# Altium footprint library transistor-power.PCBLIB: 90 footprints (part 2 of 6)
Each footprint in its own frame and in the unit in brackets; x right, y up, seen from the top. Pads: shape width x height; smd on the part's side, far side on the other; paste and mask are expansions set on the pad; w line width, h text height; cw(c..) or ccw(c..) is an arc to the next point about the centre after c.
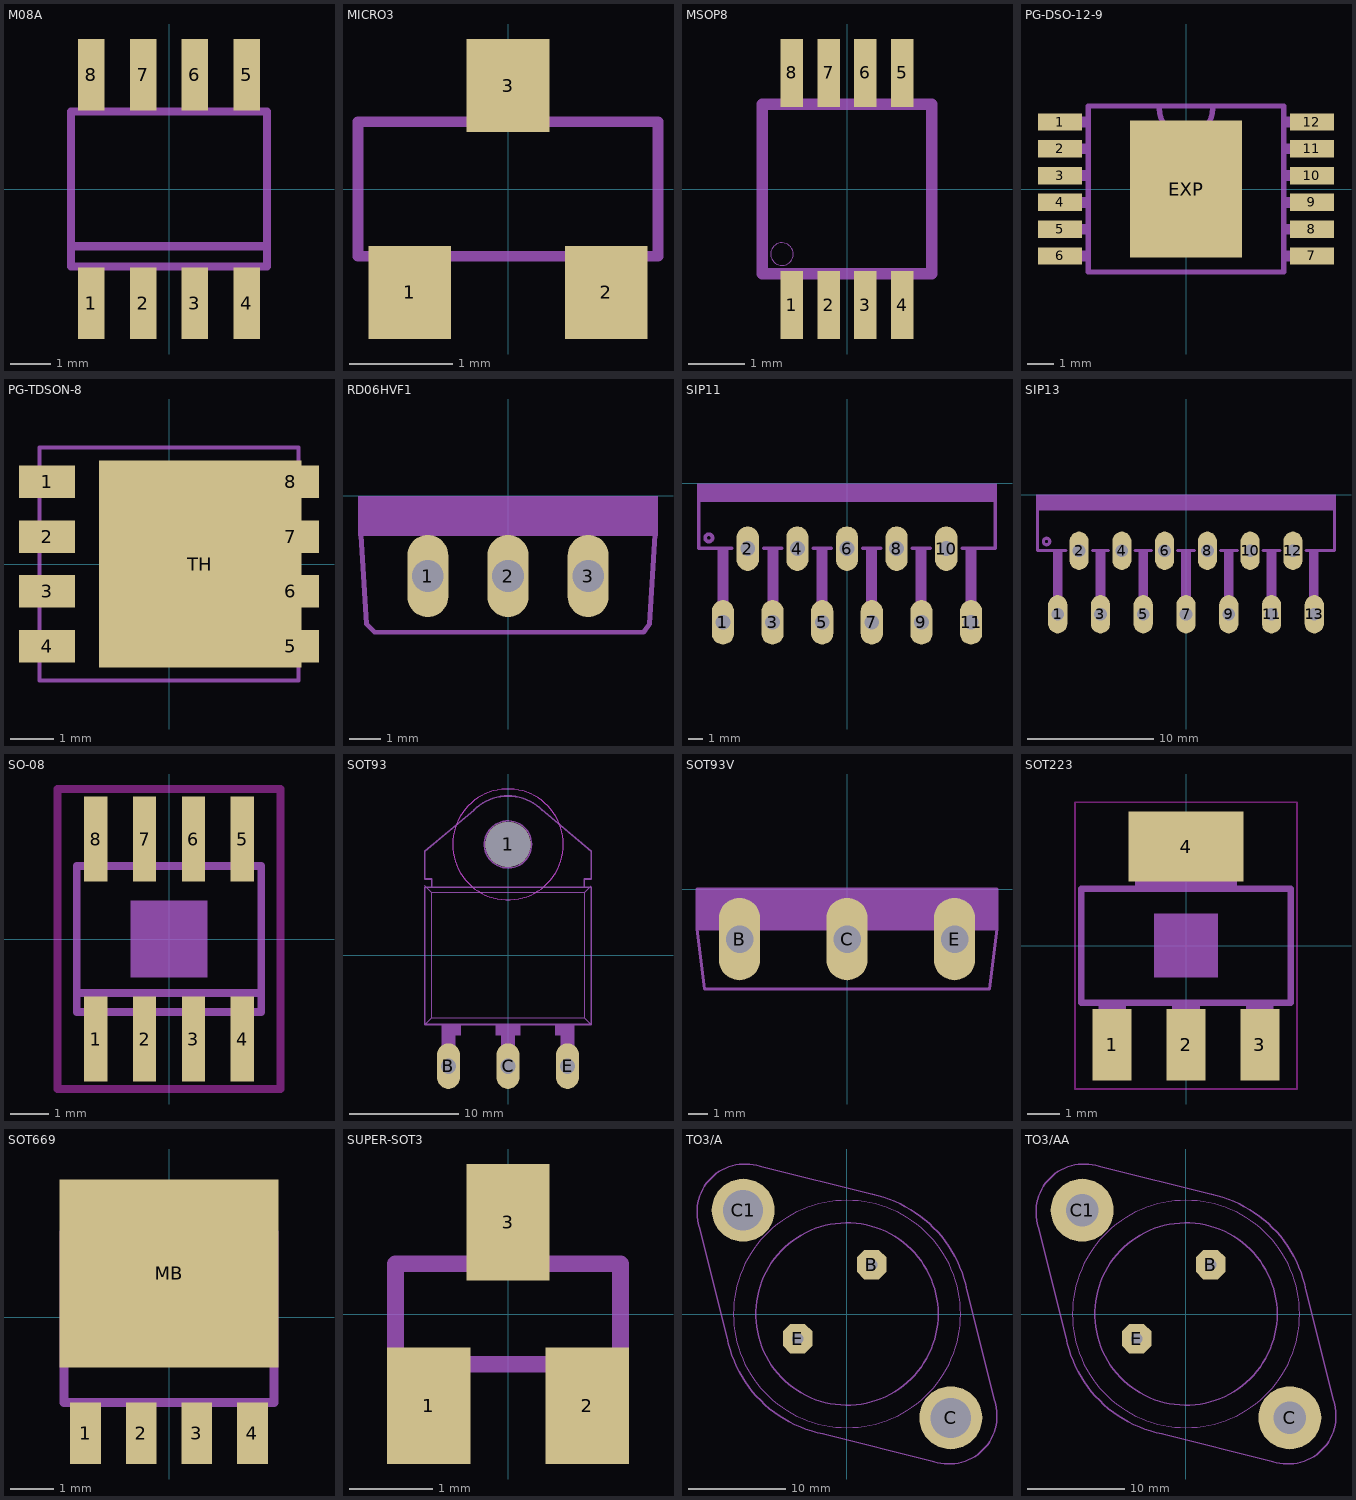
[diagram p1: the footprints below, top view; thin cyan lines are the x and y axes]

## M08A [mm]
pads (8):
  rect 0.65x1.75 smd: 1(-1.905,-2.8) 2(-0.635,-2.8) 3(0.635,-2.8) 4(1.905,-2.8) 5(1.905,2.8) 6(0.635,2.8) 7(-0.635,2.8) 8(-1.905,2.8)
Mechanical 18:
  rectangle: -2.15,-3.1 -1.66,-2
  rectangle: -0.88,-3.1 -0.39,-2
  rectangle: 0.39,-3.1 0.88,-2
  rectangle: 1.66,-3.1 2.15,-2
  rectangle: 1.66,2 2.15,3.1
  rectangle: 0.39,2 0.88,3.1
  rectangle: -0.88,2 -0.39,3.1
  rectangle: -2.15,2 -1.66,3.1
  lines w0.203: -2.4,-1.4 -2.4,-1.9 2.4,-1.9 2.4,-1.4 ; -2.4,-1.4 -2.4,1.9 2.4,1.9 2.4,-1.4 ; -2.4,-1.4 2.4,-1.4

## MICRO3 [mil]
pads (3):
  rect 31.5x35.43 smd: 1(-37.4,-39.37) 2(37.4,-39.37) 3(0,39.37)
Mechanical 2:
  lines w4: -57.09,-25.59 -57.09,25.59 -23.62,25.59 ; -13.78,-25.59 13.78,-25.59 ; 23.62,25.59 57.09,25.59 57.09,-25.59
Mechanical 18:
  rectangle: -10.63,25.98 10.63,49.21
  rectangle: -48.03,-49.21 -26.77,-25.59
  rectangle: 26.77,-49.21 48.03,-25.2
  lines w4: -57.09,-25.59 -13.78,-25.59 ; -23.62,25.59 23.62,25.59 ; 13.78,-25.59 57.09,-25.59

## MSOP8 [mil]
pads (8):
  rect 15.75x47.24 smd: 1(-38.39,-80.71) 2(-12.8,-80.71) 3(12.8,-80.71) 4(38.39,-80.71) 5(38.39,80.71) 6(12.8,80.71) 7(-12.8,80.71) 8(-38.39,80.71)
Mechanical 2:
  circle w0: c-45.28,-45.28 r7.87
  lines w8: -59.06,-59.06 -59.06,59.06 ; 59.06,-59.06 59.06,59.06
Mechanical 18:
  rectangle: -44.29,-96.46 -32.48,-61.02
  rectangle: -18.7,-96.46 -6.89,-61.02
  rectangle: 6.89,-96.46 18.7,-61.02
  rectangle: 32.48,-96.46 44.29,-61.02
  rectangle: 32.48,61.02 44.29,96.46
  rectangle: 6.89,61.02 18.7,96.46
  rectangle: -18.7,61.02 -6.89,96.46
  rectangle: -44.29,61.02 -32.48,96.46
  lines w8: -59.06,-59.06 59.06,-59.06 ; -59.06,59.06 59.06,59.06

## PG-DSO-12-9 [mm]
pads (13):
  rect 1.65x0.65 smd mask-0.825: 1(-4.7,2.5) 2(-4.7,1.5) 3(-4.7,0.5) 4(-4.7,-0.5) 5(-4.7,-1.5) 6(-4.7,-2.5) 7(4.7,-2.5) 8(4.7,-1.5) 9(4.7,-0.5) 10(4.7,0.5) 11(4.7,1.5) 12(4.7,2.5)
  rect 4.2x5.1 smd paste-2.55 mask-2.55: EXP(0,0)
Top Layer:
  region: 0,0 0.254,0 0.254,0.254 0,0.254
Bottom Paste:
  rectangle: -1.8,-2.2 1.8,2.2
  rectangle: -0.6,2.2 0.6,3.7
  rectangle: -0.6,-3.7 0.6,-2.2
Top Solder:
  rectangle: -2.2,-2.65 2.2,2.65
  rectangle: -0.9,-4 0.9,4
  rectangle: -5.6,2.1 -3.8,2.9
  rectangle: -5.6,1.1 -3.8,1.9
  rectangle: -5.6,0.1 -3.8,0.9
  rectangle: -5.6,-0.9 -3.8,-0.1
  rectangle: -5.6,-1.9 -3.8,-1.1
  rectangle: -5.6,-2.9 -3.8,-2.1
  region: 5.6,-2.1 3.8,-2.1 3.8,-2.9 5.6,-2.9
  region: 5.6,-1.1 3.8,-1.1 3.8,-1.9 5.6,-1.9
  region: 5.6,-0.1 3.8,-0.1 3.8,-0.9 5.6,-0.9
  region: 5.6,0.9 3.8,0.9 3.8,0.1 5.6,0.1
  region: 5.6,1.9 3.8,1.9 3.8,1.1 5.6,1.1
  region: 5.6,2.9 3.8,2.9 3.8,2.1 5.6,2.1
Mechanical 2:
  lines w0.203: -1,3 ccw(c0,3) 1,3 ; -3.648,-3.098 3.648,-3.098 3.648,3.098 -3.648,3.098 -3.648,-3.098
Mechanical 18:
  rectangle: -5.15,2.3 -3.75,2.7
  rectangle: -5.15,1.3 -3.75,1.7
  rectangle: -5.15,0.3 -3.75,0.7
  rectangle: -5.15,-0.7 -3.75,-0.3
  rectangle: -5.15,-1.7 -3.75,-1.3
  rectangle: -5.15,-2.7 -3.75,-2.3
  rectangle: 3.75,-2.7 5.15,-2.3
  rectangle: 3.75,-1.7 5.15,-1.3
  rectangle: 3.75,-0.7 5.15,-0.3
  rectangle: 3.75,0.3 5.15,0.7
  rectangle: 3.75,1.3 5.15,1.7
  rectangle: 3.75,2.3 5.15,2.7

## PG-TDSON-8 [mm]
pads (9):
  rect 1.3x0.75 smd: 1(-2.825,1.905) 2(-2.825,0.635) 3(-2.825,-0.635) 4(-2.825,-1.905) 5(2.825,-1.905) 6(2.825,-0.635) 7(2.825,0.635) 8(2.825,1.905)
  rect 4.7x4.8 smd paste-2.4: TH(0.725,0)
Top Paste:
  region: 1.778,-1.27 0.889,-1.27 0.889,-2.159 1.778,-2.159
  region: 0.635,-1.27 -0.254,-1.27 -0.254,-2.159 0.635,-2.159
  region: -0.508,-1.27 -1.397,-1.27 -1.397,-2.159 -0.508,-2.159
  region: -0.508,-0.127 -1.397,-0.127 -1.397,-1.016 -0.508,-1.016
  region: -0.508,1.016 -1.397,1.016 -1.397,0.127 -0.508,0.127
  region: -0.508,2.159 -1.397,2.159 -1.397,1.27 -0.508,1.27
  region: 0.635,-0.127 -0.254,-0.127 -0.254,-1.016 0.635,-1.016
  region: 0.635,1.016 -0.254,1.016 -0.254,0.127 0.635,0.127
  region: 0.635,2.159 -0.254,2.159 -0.254,1.27 0.635,1.27
  region: 1.778,-0.127 0.889,-0.127 0.889,-1.016 1.778,-1.016
  region: 1.778,1.016 0.889,1.016 0.889,0.127 1.778,0.127
  region: 1.778,2.159 0.889,2.159 0.889,1.27 1.778,1.27
Mechanical 18:
  rectangle: -3.175,1.651 -3,2.159
  rectangle: -3.175,0.381 -3,0.889
  rectangle: -3.175,-0.889 -3,-0.381
  rectangle: -3.175,-2.159 -3,-1.651
  region: 3.175,-1.651 3,-1.651 3,-2.159 3.175,-2.159
  region: 3.175,-0.381 3,-0.381 3,-0.889 3.175,-0.889
  region: 3.175,0.889 3,0.889 3,0.381 3.175,0.381
  region: 3.175,2.159 3,2.159 3,1.651 3.175,1.651
  lines w0.102: -3,-2.7 3,-2.7 3,2.7 -3,2.7 -3,-2.7

## RD06HVF1 [mm]
pads (3):
  oval 1.3x2.6 hole 1: 1(-2.54,-2.54) 2(0,-2.54) 3(2.54,-2.54)
Mechanical 2:
  rectangle: -4.75,-0.762 4.75,0
  rectangle: -4.75,-1.27 -3.429,-0.762
  rectangle: -1.651,-1.27 -0.889,-0.762
  rectangle: 0.889,-1.27 1.651,-0.762
  rectangle: 3.429,-1.27 4.75,-0.762
  lines w0.152: -4.655,-1.243 -4.478,-4.064 -4.224,-4.318 4.299,-4.318 4.478,-4.064 4.655,-1.218
Mechanical 18:
  rectangle: -3.429,-1.27 -1.651,-0.762
  rectangle: -0.889,-1.27 0.889,-0.762
  rectangle: 1.651,-1.27 3.429,-0.762

## SIP11 [mil]
pads (11):
  oval 60x120 hole 40: 1(-335,-375) 2(-268,-176) 3(-201,-375) 4(-134,-176) 5(-67,-375) 6(0,-176) 7(67,-375) 8(134,-176) 9(201,-375) 10(268,-176) 11(335,-375)
Mechanical 2:
  circle w10: c-373,-147 r10
  rectangle: -405,-50 405,0
  rectangle: -350,-335 -320,-175
  rectangle: -215,-335 -185,-175
  rectangle: -82,-335 -52,-175
  rectangle: 51,-335 81,-175
  rectangle: 185,-335 215,-175
  rectangle: 320,-335 350,-175
  lines w10: -400,-50 -400,-175 -311,-175 ; -225,-175 -177,-175 ; -91,-175 -43,-175 ; 43,-175 91,-175 ; 177,-175 225,-175 ; 311,-175 400,-175 400,-50

## SIP13 [mil]
pads (13):
  oval 60x120 hole 40: 1(-402,-375) 2(-335,-176) 3(-268,-375) 4(-201,-176) 5(-134,-375) 6(-67,-176) 7(0,-375) 8(67,-176) 9(134,-375) 10(201,-176) 11(268,-375) 12(335,-176) 13(402,-375)
Mechanical 2:
  circle w10: c-437,-147 r10
  rectangle: -470,-50 470,0
  rectangle: -417,-335 -387,-175
  rectangle: -283,-335 -253,-175
  rectangle: -149,-335 -119,-175
  rectangle: -15,-335 15,-175
  rectangle: 119,-335 149,-175
  rectangle: 253,-335 283,-175
  rectangle: 385,-335 415,-175
  lines w10: -465,-50 -465,-175 -377,-175 ; -293,-175 -243,-175 ; -160,-175 -108,-175 ; -26,-175 26,-175 ; 108,-175 161,-175 ; 242,-175 294,-175 ; 376,-175 465,-175 465,-50

## SO-08 [mil]
pads (8):
  rect 23.62x86.61 smd: 1(-75,-102.36) 2(-25,-102.36) 3(25,-102.36) 4(75,-102.36) 5(75,102.36) 6(25,102.36) 7(-25,102.36) 8(-75,102.36)
Keep-Out Layer:
  lines w7.87: -114.17,-153.54 114.17,-153.54 114.17,153.54 -114.17,153.54 -114.17,-153.54
Mechanical 8:
  rectangle: -39.37,-39.37 39.37,39.37
Mechanical 18:
  rectangle: -84.65,-122.05 -65.35,-78.74
  rectangle: -34.65,-122.05 -15.35,-78.74
  rectangle: 15.35,-122.05 34.65,-78.74
  rectangle: 65.35,-122.05 84.65,-78.74
  rectangle: 65.35,78.74 84.65,122.05
  rectangle: 15.35,78.74 34.65,122.05
  rectangle: -34.65,78.74 -15.35,122.05
  rectangle: -84.65,78.74 -65.35,122.05
  lines w8: -94.49,-55.12 -94.49,-74.8 94.49,-74.8 94.49,-55.12 ; -94.49,-55.12 -94.49,74.8 94.49,74.8 94.49,-55.12 ; -94.49,-55.12 94.49,-55.12

## SOT93 [mil]
pads (4):
  round 162 hole 162: 1(0,400)
  oval 82.5x165 hole 55: B(-215,-400) C(0,-400) E(215,-400)
Mechanical 2:
  circle w6: c0,400 r85
  rectangle: -240,-290 -170,-250
  rectangle: 170,-290 240,-250
  rectangle: -45,-290 45,-250
  rectangle: -240,-320 -190,-250
  rectangle: -25,-320 25,-250
  rectangle: 190,-320 240,-250
  lines w2: -275,-225 275,-225 275,225 -275,225 -275,-225
  lines w6: -123.74,523.74 cw(c0.01,400) 0,575 cw(c-0.01,400) 123.74,523.74 ; -123,524 -300,375 -300,275 -275,275 -275,245 ; 123,525 300,375 300,275 275,275 275,245 ; -275,245 -300,245 -300,-250 300,-250 300,245 275,245 ; -275,245 275,245
Mechanical 11 keep-out:
  circle w0: c0,400 r200
Mechanical 12:
  circle w0: c0,400 r200
Mechanical 18:
  rectangle: -240,-405 -190,-320
  rectangle: -25,-405 25,-320
  rectangle: 190,-405 240,-320
  lines w2: -300,-250 -275,-225 ; -300,250 -275,225 ; 275,-225 300,-250 ; 275,225 300,250

## SOT93V [mil]
pads (3):
  oval 82.5x165 hole 55: B(-215,-100) C(0,-100) E(215,-100)
Mechanical 2:
  lines w6: -135,-80 -80,-80 ; 80,-80 135,-80 ; -300,-80 -300,0 300,0 300,-80 285,-200 -285,-200 -300,-80
Mechanical 18:
  rectangle: -300,-80 300,0
  lines w6: -300,-80 -135,-80 ; -80,-80 80,-80 ; 135,-80 300,-80

## SOT223 [mil]
pads (4):
  rect 47.99x87.99 smd: 1(-90.98,-122.01) 2(0,-122.01) 3(90.98,-122.01)
  rect 141.73x86.61 smd: 4(0,122.01)
Keep-Out Layer:
  lines w2: -136.73,-176.5 136.73,-176.5 136.73,176.5 -136.73,176.5 -136.73,-176.5
Mechanical 2:
  lines w8: -129.02,-70 129.02,-70 129.02,70 -129.02,70 -129.02,-70
Mechanical 8:
  rectangle: -39.37,-39.37 39.37,39.37
Mechanical 18:
  rectangle: -63,71 63,144
  rectangle: -17,-144 17,-71
  rectangle: -108,-144 -74,-71
  rectangle: 74,-144 108,-71
  rectangle: -63,71 63,144
  rectangle: -17,-144 17,-71
  rectangle: -108,-144 -74,-71
  rectangle: 74,-144 108,-71

## SOT669 [mm]
pads (5):
  rect 0.7x1.4 smd: 1(-1.905,-2.65) 2(-0.635,-2.65) 3(0.635,-2.65) 4(1.905,-2.65)
  rect 5x4.3 smd paste-2.5: MB(0,1)
Top Paste:
  rectangle: -2.4,2.05 2.425,3.1
  rectangle: -1.575,-1.025 1.575,2.075
Mechanical 2:
  lines w0.203: -2.4,-1.95 -2.4,-1.225 ; 2.4,-1.95 2.4,-1.225
Mechanical 18:
  circle w0.203: c-1.625,0 r0.325
  rectangle: -2.155,-3.1 -1.655,-2.05
  rectangle: -2.205,-2.8 -1.605,-2.175
  rectangle: -0.885,-3.1 -0.385,-2.05
  rectangle: -0.935,-2.8 -0.335,-2.175
  rectangle: 0.385,-3.1 0.885,-2.05
  rectangle: 0.335,-2.8 0.935,-2.175
  rectangle: 1.655,-3.1 2.155,-2.05
  rectangle: 1.605,-2.8 2.205,-2.175
  region: 0,0 0.254,0 0.254,0.254 0,0.254
  lines w0.203: -2.4,-1.95 2.4,-1.95 2.4,1.95 -2.4,1.95 -2.4,-1.95

## SUPER-SOT3 [mm]
pads (3):
  rect 1x1.4 smd: 1(-0.95,-1.1) 2(0.95,-1.1) 3(0,1.1)
Mechanical 2:
  lines w0.203: -1.352,-0.603 1.352,-0.603 1.352,0.603 -1.352,0.603 -1.352,-0.603
Mechanical 18:
  rectangle: -1.175,-1.25 -0.675,-0.653
  rectangle: 0.675,-1.25 1.175,-0.653
  region: 0.225,1.25 -0.25,1.25 -0.25,0.653 0.225,0.653

## TO3/A [mil]
pads (4):
  oct 120.06x120.06 hole 47: B(100,200) E(-200,-100)
  round 255 hole 162: C(420,-420) C1(-420,420)
Mechanical 2:
  circle w6: c0,0 r369
  circle w2: c0,0 r460
  lines w6: -598,354 -485,-98 ; -597.47,351.27 cw(c-412,412) -550,550 cw(c-411.99,412) -350.88,597.35 ; -485.36,-97.07 ccw(c0,0) -350,-350 ccw(c0,0) -97.07,-485.36 ; -354,598 118,480 ; -98,-485 354,-598 ; 103.71,483.99 cw(c-0.01,0) 350,350 cw(c0,0) 485.36,97.07 ; 350.88,-597.34 ccw(c411.99,-412) 549.99,-549.99 ccw(c412,-411.99) 597.48,-351.27 ; 485,98 598,-354
Mechanical 18:
  circle w6: c420,-420 r85
  circle w6: c-420,420 r85

## TO3/AA [mil]
pads (4):
  oct 120.06x120.06 hole 47: B(100,200) E(-200,-100)
  round 255 hole 130: C(420,-420) C1(-420,420)
Mechanical 2:
  circle w6: c0,0 r369
  circle w2: c0,0 r460
  lines w6: -598,354 -485,-98 ; -597.47,351.27 cw(c-412,412) -550,550 cw(c-411.99,412) -350.88,597.35 ; -485.36,-97.07 ccw(c0,0) -350,-350 ccw(c0,0) -97.07,-485.36 ; -354,598 118,480 ; -98,-485 354,-598 ; 103.71,483.99 cw(c-0.01,0) 350,350 cw(c0,0) 485.36,97.07 ; 350.88,-597.34 ccw(c411.99,-412) 549.99,-549.99 ccw(c412,-411.99) 597.48,-351.27 ; 485,98 598,-354
Mechanical 18:
  circle w6: c420,-420 r85
  circle w6: c-420,420 r85